# Altium schematic symbol library HUB_WMBUS_RF_02.Schlib: 1 symbol
Pins are listed as number, name and electrical type; pins without a type are passive.

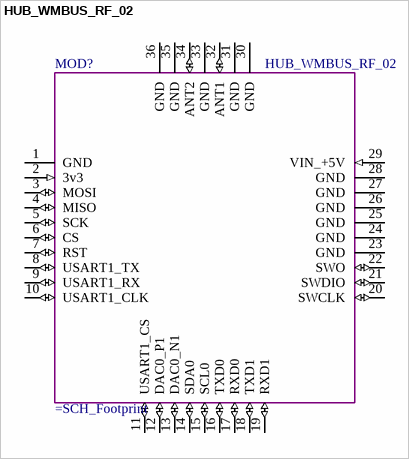
[diagram p0: symbol HUB_WMBUS_RF_02]

## HUB_WMBUS_RF_02
designator MOD?
pins: 1 GND, 2 3v3 (in), 3 MOSI (io) "PB3;PCNT1_S0IN #1;US2_TX #1", 4 MISO (io) "PB4;PCNT1_S1IN #1", 5 SCK (io) "PB5;US2_CLK #1", 6 CS (io) "PB6;US2_CS #1", 7 RST (io) "RESETn", 8 USART1_TX (io) "PD0;ADC0_CH0;OPAMP_OUT2 #1;PCNT2_S0IN #0;US1_TX #1", 9 USART1_RX (io) "PD1;ADC0_CH1;DAC0_OUT1ALT #4;OPAMP_OUT1ALT;TIM0_CC0 #3;PCNT2_S1IN #0;US1_RX #1;DBG_SWO #2", 10 USART1_CLK (io) "PD2;ADC0_CH2;TIM0_CC1 #3;USB_DMPU #0;US1_CLK #1;DBG_SWO #3", 11 USART1_CS (io) "PD3;ADC0_CH3 OPAMP_N2;TIM0_CC2 #3;US1_CS #1;ETM_TD1 #0/2", 12 DAC0_P1 (io) "PD6;ADC0_CH6 DAC0_P1;OPAMP_P1;TIM1_CC0#4;LE-TIM0_OUT0#0;PCNT0_S0IN#3;US1_RX#2;I2C0_SDA#1;ACMP0_O#2;ETM_TD0#0;BOOT_RX", 13 DAC0_N1 (io) "PD7;;ADC0_CH7;DAC0_N1;OPAMP_N1;TIM1_CC1#4;LE-TIM0_OUT1#0;PCNT0_S1IN#3;US1_TX#2;I2C0_SCL#1;CMU_CLK0#2;ACMP1_O#2;ETM_TCLK#0;BOOT_TX", 14 SDA0 (io) "PC6;ACMP0_CH6;LEU1_TX #0;I2C0_SDA#2;LES_CH6 #0;ETM_TCLK #2", 15 SCL0 (io) "PC7;ACMP0_CH7;LEU1_RX #0;I2C0_SCL #2;LES_CH7 #0 ETM_TD0 #2", 16 TXD0 (io) "PE0;TIM3_CC0#1;PCNT0_S0IN#1;U0_TX#1;I2C1_SDA#2", 17 RXD0 (io) "PE1;TIM3_CC1#1;PCNT0_S1IN#1;U0_RX#1;I2C1_SCL#2", 18 TXD1 (io) "PE2;BU_VOUT;TIM3_CC2#1;U1_TX#3;ACMP0_O#1", 19 RXD1 (io) "PE3;BU_STAT;U1_RX#3;ACMP1_O#1", 20 SWCLK (io) "PF0;TIM0_CC0#5;LE-TIM0_OUT0#2;US1_CLK#2;LEU0_TX#3;I2C0_SDA#5;DBG_SWCLK#0/1/2/3", 21 SWDIO (io) "PF1;TIM0_CC1#5;LE-TIM0_OUT1#2;US1_CS#2;LEU0_RX#3;I2C0_SCL#5;DBG_SWDIO#0/1/2/3;GPIO_EM4WU3", 22 SWO (io) "PF2;TIM0_CC2#5;LEU0_TX#4;ACMP1_O#0;DBG_SWO#0;GPIO_EM4WU4", 23 GND, 24 GND, 25 GND, 26 GND, 27 GND, 28 GND, 29 VIN_+5V (in), 30 GND, 31 GND, 32 ANT1 (io), 33 GND, 34 ANT2 (io), 35 GND, 36 GND